# Altium integrated library sinking-clock_LED-PCB.IntLib: 16 symbols
Pins are listed as number, name and electrical type; pins without a type are passive.

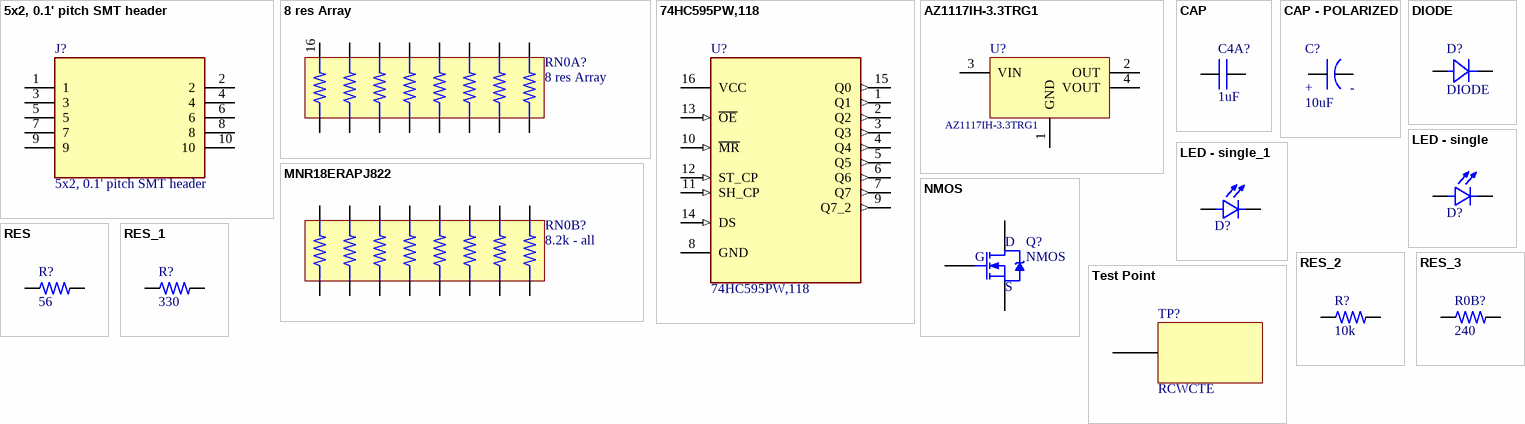
[diagram p0: symbols 5x2, 0.1' pitch SMT header to Test Point]

## 5x2, 0.1' pitch SMT header
designator J?
CONN HEADER SMD 10POS 2.54MM; MFR PN: 3020-10-0300-00; MFR: CNC Tech; ClassName: DirectConnect
footprint 5x2, 0.1' pitch SMT header (CONN HEADER SMD 10POS 2.54MM)
pins: 1, 2, 3, 4, 5, 6, 7, 8, 9, 10

## 8 res Array
designator RN0A?
MFR PN: EXB-2HV331JV; MFR: Panasonic Electronic Components; Value: 330; Vendor: *; Vendor PN: *; ComponentLink1Description: New link; ComponentLink1URL: *; ComponentLink2Description: New link 1; ComponentLink2URL: *; Vendor Link: *
footprint MNR18ERAPJ822 (Chip Array, Concave, 16-Leads, Pitch 0.50mm,  Body 4.00x1.60mm,  IPC Medium Density)
footprint EXB2HV331JV (330 Res Array)
pins: 1, 2, 3, 4, 5, 6, 7, 8, 9, 10, 11, 12, 13, 14, 15, 16

## 74HC595PW,118
designator U?
Shift Shift Register 1 Element 8 Bit 16-TSSOP; MFR: Nexperia USA; MFR PN: 74HC595PW,118
footprint 16-TSSOP
pins: 1 Q1 (out), 2 Q2 (out), 3 Q3 (out), 4 Q4 (out), 5 Q5 (out), 6 Q6 (out), 7 Q7 (out), 8 GND, 9 Q7_2 (out), 10 ~{MR} (in), 11 SH_CP (in), 12 ST_CP (in), 13 ~{OE} (in), 14 DS (in), 15 Q0 (out), 16 VCC (power)

## AZ1117IH-3.3TRG1
designator U?
IC REG LINEAR 3.3V 1A SOT223; MFR: Diodes Incorporated; MFR PN: AZ1117IH-3.3TRG1; ClassName: DirectConnect
footprint SOT-223-3
pins: 1 GND, 2 OUT, 3 VIN, 4 VOUT

## CAP
designator C4A?  value 1uF  (hidden comment: CAP)
Capaicitor; MFR PN: CL05A105KP5NNNC; MFR: Samsung Electro-Mechanics
footprint 0402 CAP (0402 SMT Capacitor)
pins: 1, 2

## CAP - POLARIZED
designator C?, comment value 10uF  (hidden comment: CAP)
Capacitor; MFR: Würth Elektronik; MFR PN: 865080642006; Type: SMD; Vendor: *; Vendor PN: *; Vendor Link: *; ClassName: DirectConnect
footprint CAP_CAN_POLY
pins: 1, 2
text: +; -

## DIODE
designator D?
DIODE GEN PURP; MFR: Micro Commercial Co; MFR PN: GS1M-LTP; Type: SMD; Value: *; ClassName: DirectConnect
footprint DO-214AC
pins: A, K

## LED - single
designator D?  (value not drawn)
MFR PN: 5988070107F; MFR: Dialight; Color: Green; ClassName: DirectConnect
footprint LED - 0603
footprint LED - 1206 RIGHT ANGLE
pins: 1 A, 2 C

## LED - single_1
designator D?, comment LED - single  (value not drawn)
LED; MFR: Würth Elektronik; MFR PN: 155124RS73200; Color: Red; Type: SMD; Notes: Right-Angle Sideways Mount; Vendor: *; Vendor PN: *; Vendor Link: *
footprint LED - 0603
footprint LED - 1204 RA (SMD Mono-color Side view Waterclear, body 3.2x1.5mm)
pins: 1 A, 2 C

## MNR18ERAPJ822
designator RN0B?, comment 8.2k - all
8.2k Ohm ±5% 62.5mW Power Per Element Isolated 8 Resistor Network/Array ±250ppm/°C 1606, Convex, Long Side Terminals; MFR PN: MNR18ERAPJ822; MFR: Rohm Semiconductor
footprint MNR18ERAPJ822 (Chip Array, Concave, 16-Leads, Pitch 0.50mm,  Body 4.00x1.60mm,  IPC Medium Density)
pins: 1, 2, 3, 4, 5, 6, 7, 8, 9, 10, 11, 12, 13, 14, 15, 16

## NMOS
designator Q?
N-Channel MOSFET; MFR PN: DMN63D8L-7; MFR: Diodes Incorporated
footprint SOT-23
pins: 1 G, 2 S, 3 D

## RES
designator R?  value 56  (hidden comment: RES)
Resistor; MFR PN: RC0402FR-0756RL; MFR: YAGEO
footprint 0402 RES (0402 SMT Resistor)
pins: 1, 2

## RES_1
designator R?, comment value 330  (hidden comment: RES)
Resistor; MFR PN: RC0402JR-13330RL; MFR: YAGEO; Vendor: *; Vendor PN: *; Vendor Link: *
footprint 0402R (0402 SMT Resistor)
pins: 1, 2

## RES_2
designator R?, comment value 10k  (hidden comment: RES)
Resistor; MFR PN: RC0402JR-0710KL; MFR: YAGEO; Vendor: *; Vendor PN: *; Vendor Link: *
footprint 0402R (0402 SMT Resistor)
pins: 1, 2

## RES_3
designator R0B?, comment value 240  (hidden comment: RES)
Resistor; MFR PN: RC0402FR-07240RL; MFR: YAGEO
footprint 0402 RES (0402 SMT Resistor)
pins: 1, 2

## Test Point
designator TP?, comment RCWCTE
MFR: KOA Speer Electronics, Inc.; MFR PN: RCWCTE
footprint RCWCTE
pins: 1 0